# Altium footprint library MSP430G2553IPW0_Q1.PcbLib: 2 footprints
Each footprint in its own frame and in the unit in brackets; x right, y up, seen from the top. Pads: shape width x height; smd on the part's side, far side on the other; paste and mask are expansions set on the pad; w line width, h text height; cw(c..) or ccw(c..) is an arc to the next point about the centre after c.
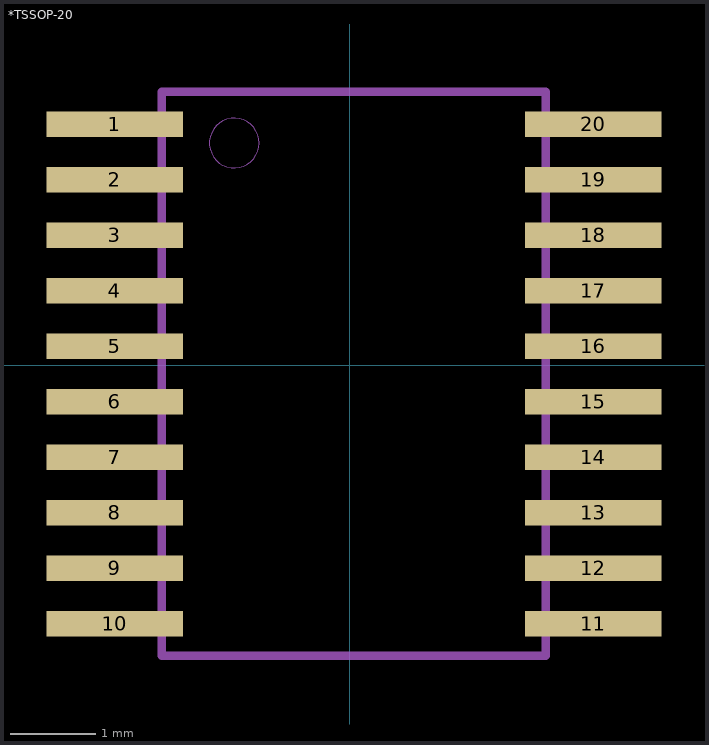
[diagram p0: the footprints below, top view; thin cyan lines are the x and y axes]

## *TSSOP-20 [mm]
pads (20):
  rect 1.6x0.3 smd: 1(-2.748,2.822) 2(-2.748,2.172) 3(-2.748,1.522) 4(-2.748,0.872) 5(-2.748,0.222) 6(-2.748,-0.428) 7(-2.748,-1.078) 8(-2.748,-1.728) 9(-2.748,-2.378) 10(-2.748,-3.028) 11(2.852,-3.028) 12(2.852,-2.378) 13(2.852,-1.728) 14(2.852,-1.078) 15(2.852,-0.428) 16(2.852,0.222) 17(2.852,0.872) 18(2.852,1.522) 19(2.852,2.172) 20(2.852,2.822)
Mechanical 4:
  circle w0: c-1.35,2.6 r0.292
  circle w0: c-1.35,2.6 r0.292
  lines w0.1: -2.2,-3.4 2.3,-3.4 ; -2.2,-3.4 -2.2,3.2 ; -2.2,-3.4 2.3,-3.4 ; -2.2,-3.4 -2.2,3.2 ; -2.2,3.2 2.3,3.2 ; -2.2,3.2 2.3,3.2 ; 2.3,-3.4 2.3,3.2 ; 2.3,-3.4 2.3,3.2

## PCBComponent_1 [mm]